# Altium footprint library MLIN.PcbLib: 2 footprints
Each footprint in its own frame and in the unit in brackets; x right, y up, seen from the top. Pads: shape width x height; smd on the part's side, far side on the other; paste and mask are expansions set on the pad; w line width, h text height; cw(c..) or ccw(c..) is an arc to the next point about the centre after c.
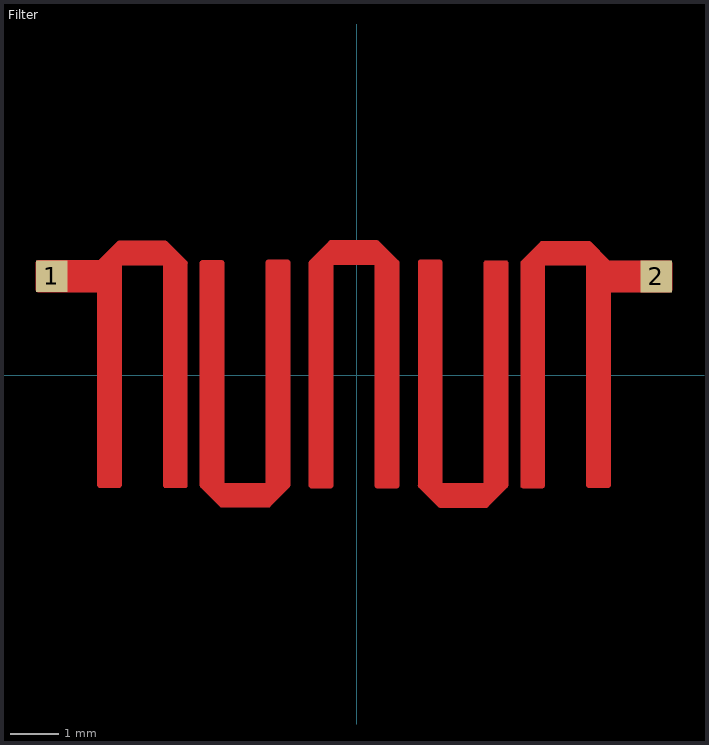
[diagram p0: the footprints below, top view; thin cyan lines are the x and y axes]

## Adder [mm] "Adder"

## Filter [mm] "Bandpass filter, Fc 8.9 GHz, BW 150 MHz"
pads (2):
  rect 0.657x0.657 smd paste-0.6 mask-0.6: 1(-6.334,2.059) 2(6.23,2.055)
Top Layer:
  region: -6.612,1.731 -5.385,1.731 -5.385,-2.28 -5.385,-2.29 -5.377,-2.308 -5.363,-2.323 -5.345,-2.33 -5.335,-2.33 -4.93,-2.33 -4.92,-2.33 -4.901,-2.323 -4.887,-2.308 -4.879,-2.29 -4.879,-2.28 -4.879,2.287 -4.448,2.287 -4.447,2.287 -4.445,2.287 -4.443,2.287 -4.441,2.287 -4.44,2.287 -4.014,2.287 -4.014,-2.29 -4.014,-2.3 -4.006,-2.318 -3.992,-2.332 -3.973,-2.34 -3.963,-2.34 -3.562,-2.34 -3.552,-2.34 -3.534,-2.332 -3.52,-2.318 -3.512,-2.3 -3.512,-2.29 -3.512,2.327 -3.512,2.328 -3.511,2.331 -3.511,2.334 -3.511,2.336 -3.511,2.338 -3.511,2.343 -3.513,2.353 -3.516,2.362 -3.522,2.37 -3.526,2.374 -3.929,2.777 -3.932,2.78 -3.94,2.786 -3.95,2.79 -3.96,2.792 -3.965,2.792 -4.44,2.792 -4.441,2.792 -4.443,2.792 -4.445,2.792 -4.447,2.792 -4.448,2.792 -4.929,2.792 -4.934,2.792 -4.944,2.791 -4.954,2.787 -4.962,2.781 -4.966,2.777 -5.355,2.388 -6.612,2.388 -6.622,2.388 -6.64,2.38 -6.655,2.366 -6.662,2.347 -6.662,2.337 -6.662,1.781 -6.662,1.771 -6.655,1.753 -6.64,1.739 -6.622,1.731
  region: -2.835,-2.729 -3.239,-2.325 -3.243,-2.321 -3.25,-2.31 -3.253,-2.298 -3.254,-2.285 -3.252,-2.279 -3.252,2.338 -3.252,2.348 -3.245,2.366 -3.23,2.381 -3.212,2.388 -3.202,2.388 -2.801,2.388 -2.791,2.388 -2.772,2.381 -2.758,2.366 -2.75,2.348 -2.75,2.338 -2.75,-2.239 -1.884,-2.239 -1.884,2.349 -1.884,2.359 -1.876,2.377 -1.862,2.391 -1.843,2.399 -1.833,2.399 -1.432,2.399 -1.422,2.399 -1.403,2.391 -1.389,2.377 -1.381,2.359 -1.381,2.349 -1.381,-2.291 -1.381,-2.296 -1.383,-2.306 -1.387,-2.315 -1.393,-2.323 -1.396,-2.327 -1.792,-2.723 -1.796,-2.728 -1.805,-2.735 -1.816,-2.741 -1.827,-2.744 -1.833,-2.744 -2.8,-2.744 -2.804,-2.744 -2.814,-2.742 -2.823,-2.738 -2.832,-2.732
  region: -0.987,-2.291 -0.987,-2.301 -0.98,-2.319 -0.965,-2.333 -0.947,-2.341 -0.937,-2.341 -0.535,-2.341 -0.525,-2.341 -0.507,-2.333 -0.492,-2.319 -0.485,-2.301 -0.485,-2.291 -0.485,2.297 0.382,2.297 0.382,-2.292 0.382,-2.302 0.389,-2.32 0.404,-2.334 0.422,-2.342 0.432,-2.342 0.834,-2.342 0.844,-2.342 0.862,-2.334 0.876,-2.32 0.884,-2.302 0.884,-2.292 0.884,2.338 0.884,2.339 0.885,2.342 0.885,2.344 0.885,2.346 0.885,2.348 0.885,2.353 0.883,2.362 0.879,2.371 0.874,2.38 0.87,2.383 0.467,2.787 0.463,2.79 0.455,2.796 0.446,2.8 0.436,2.802 0.431,2.802 -0.535,2.802 -0.541,2.802 -0.553,2.799 -0.563,2.793 -0.572,2.785 -0.576,2.781 -0.972,2.384 -0.976,2.381 -0.981,2.372 -0.985,2.363 -0.987,2.353 -0.987,2.348
  region: 1.292,-2.327 1.695,-2.731 1.699,-2.734 1.707,-2.74 1.716,-2.744 1.726,-2.746 1.731,-2.746 2.697,-2.746 2.704,-2.746 2.716,-2.743 2.726,-2.737 2.736,-2.729 2.739,-2.724 3.134,-2.328 3.138,-2.325 3.143,-2.317 3.147,-2.308 3.149,-2.298 3.149,-2.293 3.149,2.335 3.149,2.345 3.141,2.363 3.127,2.377 3.109,2.385 3.099,2.385 2.697,2.385 2.687,2.385 2.669,2.377 2.655,2.363 2.647,2.345 2.647,2.335 2.647,-2.241 1.781,-2.241 1.781,2.348 1.781,2.358 1.773,2.376 1.759,2.39 1.74,2.398 1.73,2.398 1.329,2.398 1.319,2.398 1.3,2.39 1.286,2.376 1.278,2.358 1.278,2.348 1.278,-2.282 1.277,-2.288 1.278,-2.301 1.281,-2.312 1.288,-2.323 1.292,-2.327
  region: 3.459,-2.343 3.86,-2.343 3.87,-2.343 3.888,-2.336 3.903,-2.321 3.91,-2.303 3.91,-2.293 3.91,2.283 4.336,2.283 4.337,2.283 4.339,2.283 4.341,2.283 4.343,2.282 4.344,2.282 4.775,2.282 4.775,-2.284 4.775,-2.294 4.783,-2.313 4.797,-2.327 4.816,-2.335 4.826,-2.335 5.231,-2.335 5.241,-2.335 5.259,-2.327 5.273,-2.313 5.281,-2.294 5.281,-2.284 5.281,1.727 6.508,1.727 6.518,1.727 6.536,1.734 6.551,1.748 6.558,1.767 6.558,1.777 6.558,2.333 6.558,2.343 6.551,2.361 6.536,2.376 6.518,2.383 6.508,2.383 5.251,2.383 4.862,2.773 4.858,2.777 4.85,2.782 4.841,2.786 4.831,2.788 4.826,2.788 4.344,2.788 4.343,2.788 4.341,2.788 4.339,2.788 4.337,2.788 4.336,2.787 3.86,2.787 3.854,2.787 3.842,2.784 3.831,2.779 3.822,2.77 3.818,2.765 3.424,2.371 3.42,2.367 3.414,2.359 3.41,2.35 3.408,2.34 3.408,2.335 3.408,-2.293 3.408,-2.303 3.416,-2.321 3.43,-2.336 3.449,-2.343